# Altium footprint library QFN-8_5x3mm.PcbLib: 1 footprints
Each footprint in its own frame and in the unit in brackets; x right, y up, seen from the top. Pads: shape width x height; smd on the part's side, far side on the other; paste and mask are expansions set on the pad; w line width, h text height; cw(c..) or ccw(c..) is an arc to the next point about the centre after c.
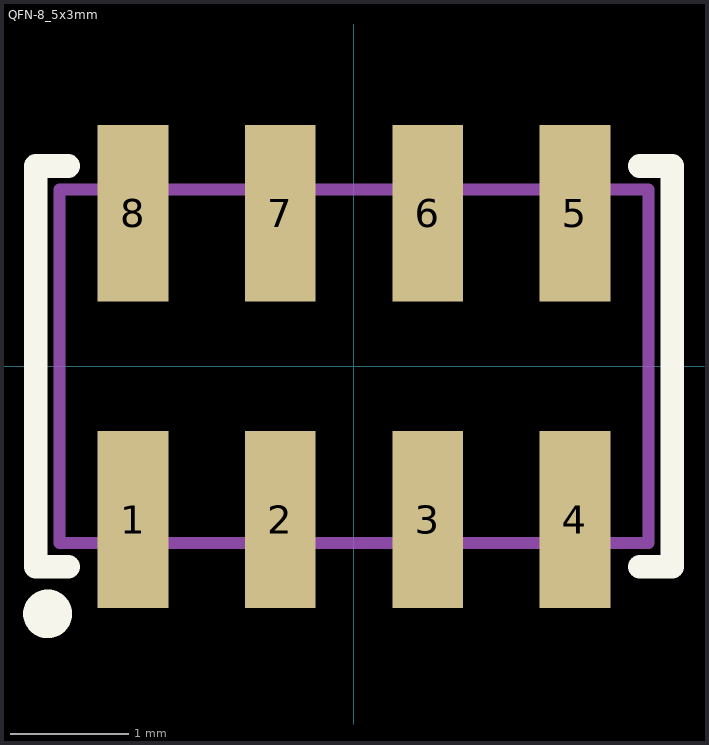
[diagram p0: the footprint, top view; thin cyan lines are the x and y axes]

## QFN-8_5x3mm [mm]
pads (8):
  rect 0.6x1.5 smd: 1(-1.875,-1.3) 2(-0.625,-1.3) 3(0.625,-1.3) 4(1.875,-1.3) 5(1.875,1.3) 6(0.625,1.3) 7(-0.625,1.3) 8(-1.875,1.3)
Top Overlay:
  circle w0.254: c-2.6,-2.1 r0.08
  lines w0.2: -2.425,-1.7 -2.7,-1.7 -2.7,1.7 -2.425,1.7 ; 2.425,-1.7 2.7,-1.7 2.7,1.7 2.425,1.7
Mechanical 13:
  lines w0.1: -2.5,-1.5 2.5,-1.5 2.5,1.5 -2.5,1.5 -2.5,-1.5